# Altium footprint library PCB1.PcbLib: 42 footprints (part 1 of 3)
Each footprint in its own frame and in the unit in brackets; x right, y up, seen from the top. Pads: shape width x height; smd on the part's side, far side on the other; paste and mask are expansions set on the pad; w line width, h text height; cw(c..) or ccw(c..) is an arc to the next point about the centre after c.
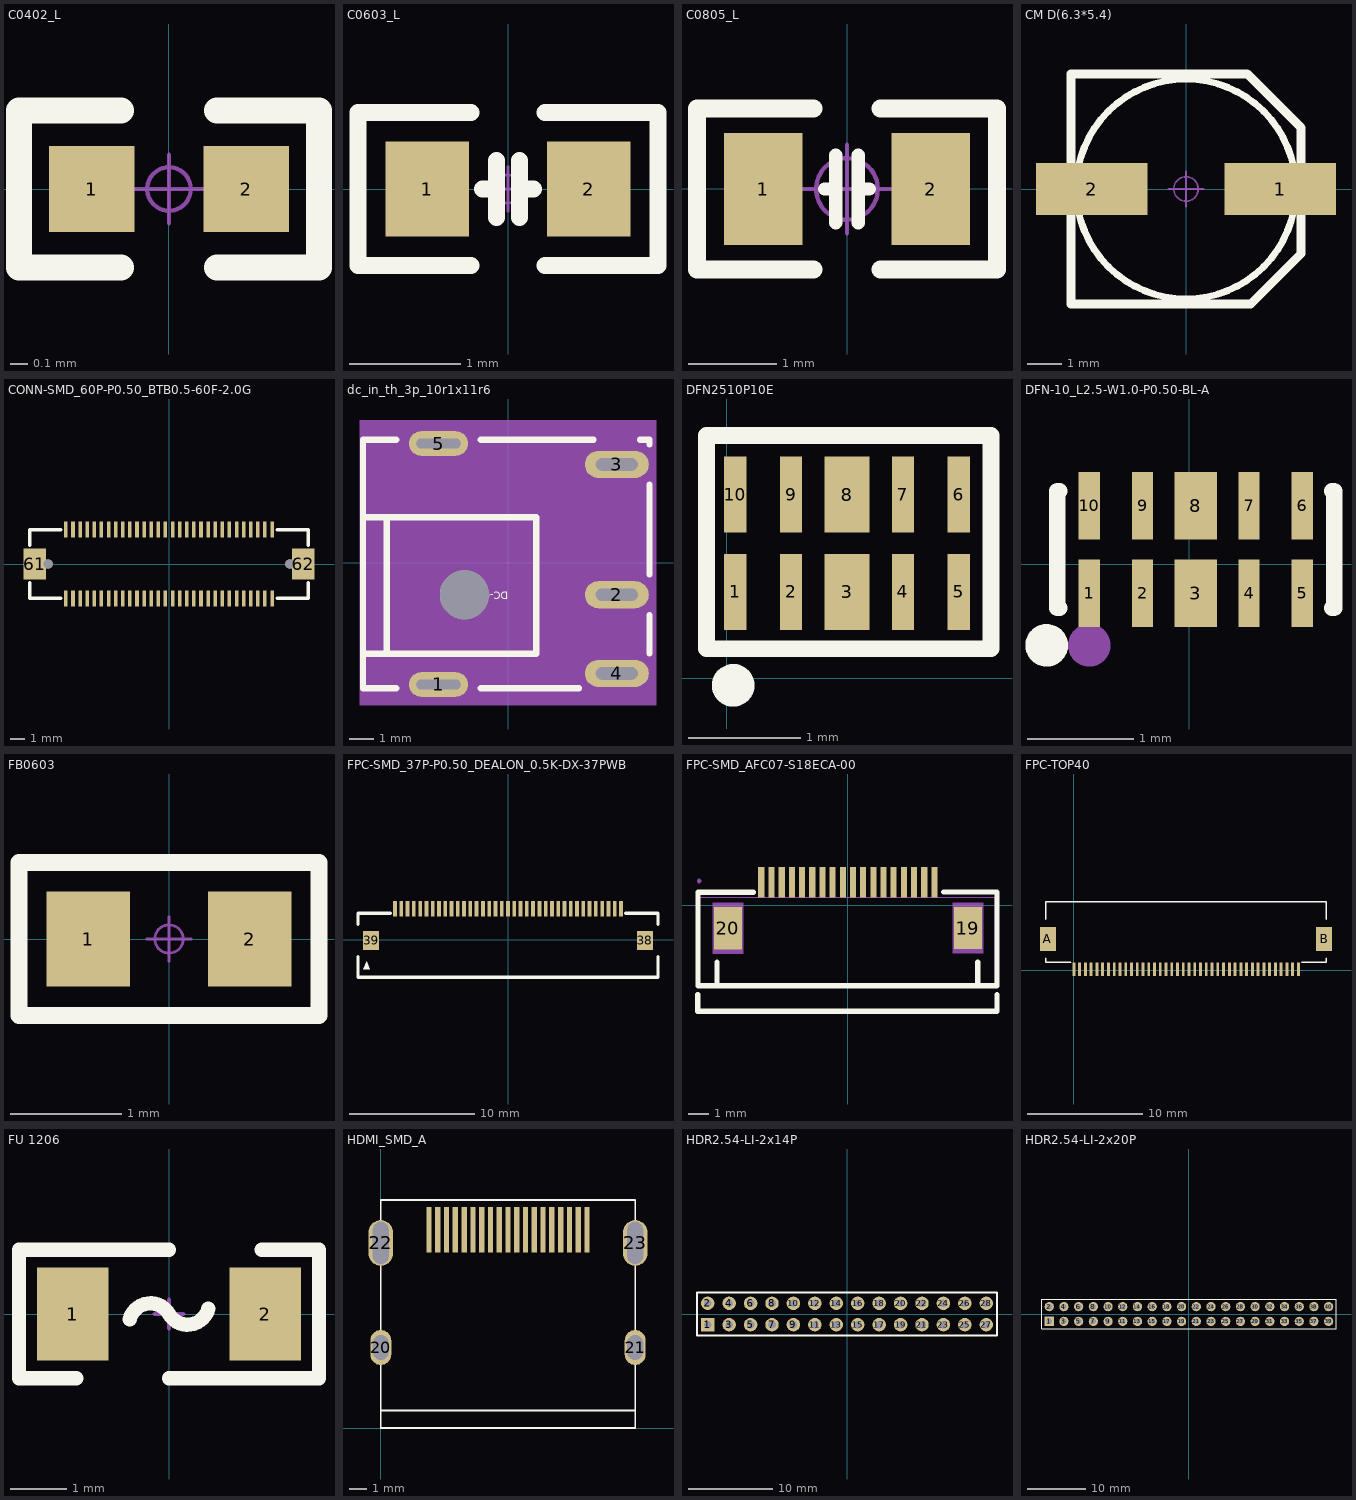
[diagram p0: the footprints below, top view; thin cyan lines are the x and y axes]

## C0402_L [mm]
pads (2):
  rect 0.5x0.5 smd: 1(-0.45,0) 2(0.45,0)
Top Overlay:
  lines w0.152: -0.279,-0.457 -0.875,-0.457 -0.875,0.457 -0.279,0.457 ; 0.279,-0.457 0.875,-0.457 0.875,0.457 0.279,0.457
Mechanical 15:
  circle w0.025: c0,0 r0.127
  lines w0.025: -0.2,0 0.2,0 ; 0,-0.2 0,0.2
3D body "C0402-B-2S.stp": height 0.5, standoff 0, extent -0.5,-0.25 0.5,0.25

## C0603_L [mm]
pads (2):
  rect 0.75x0.85 smd: 1(-0.725,0) 2(0.725,0)
Top Overlay:
  lines w0.152: -0.33,-0.686 -1.346,-0.686 -1.346,0.686 -0.33,0.686 ; -0.229,0 -0.102,0 ; -0.102,-0.254 -0.102,0.254 ; 0.102,-0.254 0.102,0.254 ; 0.102,0 0.229,0 ; 0.33,-0.686 1.346,-0.686 1.346,0.686 0.33,0.686
Mechanical 15:
  circle w0.025: c0,0 r0.127
  lines w0.025: -0.2,0 0.2,0 ; 0,-0.2 0,0.2
3D body "C0603H08-2S.stp": height 0.8, standoff 0, extent -0.8,-0.4 0.8,0.4

## C0805_L [mil]
height 19.68
pads (2):
  rect 35x50 smd: 1(-37.4,0) 2(37.4,0)
Top Overlay:
  lines w6: -10,0 -5,0 ; -5,-15 -5,15 ; 5,-15 5,15 ; 5,0 10,0
  lines w8: -15,-36 -66.93,-36 -66.93,36 -15,36 ; 15,-36 66.93,-36 66.93,36 15,36
Mechanical 15:
  circle w1.97: c0,0 r13.78
  circle w1.97: c0,0 r13.78
  lines w1.97: -19.68,0 19.68,0 -19.68,0 ; 0,-19.68 0,19.68 0,-19.68
3D body "C0805H13-2S.stp": height 51.18, standoff -0.04, extent -39.36,-25.58 39.38,25.6

## CM D(6.3*5.4) [mm]
pads (2):
  rect 3.2x1.5 smd: 1(2.7,0) 2(-2.7,0)
Top Overlay:
  circle w0.2: c0,0 r3.15
  lines w0.254: -3.3,-3.3 1.85,-3.3 3.3,-1.85 3.3,1.75 1.75,3.3 -3.3,3.3 -3.3,-3.3
Mechanical 15:
  circle w0.05: c0,0 r0.35
  lines w0.05: -0.5,0 0.5,0 ; 0,-0.5 0,0.5

## CONN-SMD_60P-P0.50_BTB0.5-60F-2.0G [mm]
pads (64):
  rect 0.25x1.15 smd paste+0 mask+0.051: 1(-7.25,2.425) 2(-7.25,-2.425) 3(-6.75,2.425) 4(-6.75,-2.425) 5(-6.25,2.425) 6(-6.25,-2.425) 7(-5.75,2.425) 8(-5.75,-2.425) 9(-5.25,2.425) 10(-5.25,-2.425) 11(-4.75,2.425) 12(-4.75,-2.425) 13(-4.25,2.425) 14(-4.25,-2.425) 15(-3.75,2.425) 16(-3.75,-2.425) 17(-3.25,2.425) 18(-3.25,-2.425) 19(-2.75,2.425) 20(-2.75,-2.425) 21(-2.25,2.425) 22(-2.25,-2.425) 23(-1.75,2.425) 24(-1.75,-2.425) 25(-1.25,2.425) 26(-1.25,-2.425) 27(-0.75,2.425) 28(-0.75,-2.425) 29(-0.25,2.425) 30(-0.25,-2.425) 31(0.25,2.425) 32(0.25,-2.425) 33(0.75,2.425) 34(0.75,-2.425) 35(1.25,2.425) 36(1.25,-2.425) 37(1.75,2.425) 38(1.75,-2.425) 39(2.25,2.425) 40(2.25,-2.425) 41(2.75,2.425) 42(2.75,-2.425) 43(3.25,2.425) 44(3.25,-2.425) 45(3.75,2.425) 46(3.75,-2.425) 47(4.25,2.425) 48(4.25,-2.425) 49(4.75,2.425) 50(4.75,-2.425) 51(5.25,2.425) 52(5.25,-2.425) 53(5.75,2.425) 54(5.75,-2.425) 55(6.25,2.425) 56(6.25,-2.425) 57(6.75,2.425) 58(6.75,-2.425) 59(7.25,2.425) 60(7.25,-2.425)
  rect 1.6x2.2 smd paste+0 mask+0.051: 61(-9.45,0) 62(9.45,0)
  round 0.65 hole 0.65 unplated paste+0: ""(-8.5,0) ""(8.5,0)
Top Overlay:
  lines w0.254: -9.8,-1.331 -9.8,-2.4 -9.5,-2.4 ; -9.8,1.331 -9.8,2.4 -7.606,2.4 ; -9.7,-2.4 -7.606,-2.4 ; 7.606,-2.4 9.8,-2.4 9.8,-1.331 ; 7.606,2.4 9.8,2.4 9.8,1.331
Mechanical 15:
  circle w0.25: c-8.5,0 r0.125
  circle w0.25: c8.5,0 r0.125

## dc_in_th_3p_10r1x11r6 [mil]
pads (6):
  oval 94.5x39.4 / inner round 60 / far side oval 94.5x39.4 hole 70.9 slot 15.7 at 90 deg: 1(-111.25,-194.9) 5(-111.25,190.9)
  oval 102.4x43.3 hole 66.9 slot 19.7 at 90 deg: 2(174.25,-51.2) 3(174.25,157.4)
  oval 102.4x43.3 / inner round 60 / far side oval 102.4x43.3 hole 66.9 slot 19.7 at 90 deg: 4(174.25,-177.2)
  round 78.7 hole 78.7 unplated: ""(-69.85,-51.2)
Top Overlay:
  lines w10: -232.25,-145.7 45.25,-145.7 45.25,72.8 -222.45,72.8 -232.25,72.8 ; -193.95,-145.7 -193.95,72.8 ; -178.95,-200.8 -232.25,-200.8 -232.25,196.8 -178.95,196.8 ; -43.45,-200.8 113.65,-200.8 ; -43.45,196.8 136.95,196.8 ; 211.45,196.8 226.35,196.8 226.35,189.7 ; 226.35,-145 226.35,-83.5 ; 226.35,-19 226.35,125.2
  text "DC-044A-20A" at 0.01,-46.06 h11.81
Top 3D Body:
  region: -237.25,-228.4 237.25,-228.4 237.25,228.4 -237.25,228.4
Mechanical 15:
  text "4" at 174.25,-187.2 h25
  text "2" at 174.25,-61.2 h25
  text "3" at 174.25,147.4 h25
  text "5" at -111.25,180.9 h25
  text "1" at -111.25,-204.9 h25
Mechanical 23:
  dashed: -232.25,-141.8 41.35,-141.8 41.35,68.9 -232.25,68.9 -232.25,78.7 51.15,78.7 51.15,-151.6 -232.25,-151.6
3D body: height 150, standoff 0, extent -237.25,-228.4 237.25,228.4

## DFN2510P10E [mm]
pads (10):
  rect 0.2x0.68 smd: 1(0.075,0.771) 2(0.575,0.771) 4(1.575,0.771) 5(2.075,0.771) 6(2.075,1.641) 7(1.575,1.641) 9(0.575,1.641) 10(0.075,1.641)
  rect 0.4x0.68 smd: 3(1.075,0.771) 8(1.075,1.641)
Top Overlay:
  circle w0.254: c0.059,-0.064 r0.064
  lines w0.15: -0.179,0.263 2.361,0.263 2.361,2.168 -0.179,2.168 -0.179,0.263

## DFN-10_L2.5-W1.0-P0.50-BL-A [mm]
pads (10):
  rect 0.2x0.633 smd paste+0 mask+0.051: 1(-0.938,-0.276) 2(-0.438,-0.276) 4(0.562,-0.276) 5(1.062,-0.276) 6(1.062,0.548) 7(0.562,0.548) 9(-0.438,0.548) 10(-0.938,0.548)
  rect 0.4x0.633 smd paste+0 mask+0.051: 3(0.062,-0.276) 8(0.062,0.548)
Top Overlay:
  circle w0.2: c-1.338,-0.764 r0.1
  lines w0.152: -1.218,-0.414 -1.238,-0.414 -1.238,0.686 -1.218,0.686 ; 1.342,-0.414 1.362,-0.414 1.362,0.686 1.342,0.686
Mechanical 15:
  circle w0.2: c-0.938,-0.764 r0.1

## FB0603 [mm]
pads (2):
  rect 0.75x0.85 smd: 1(-0.725,0) 2(0.725,0)
Top Overlay:
  lines w0.152: -1.346,-0.686 1.346,-0.686 1.346,0.686 -1.346,0.686 -1.346,-0.686
Mechanical 15:
  circle w0.025: c0,0 r0.127
  lines w0.025: -0.2,0 0.2,0 ; 0,-0.2 0,0.2
3D body "L0603H08-2S.stp": height 0.8, standoff 0, extent -0.8,-0.4 0.8,0.4

## FPC-SMD_37P-P0.50_DEALON_0.5K-DX-37PWB [mm]
pads (39):
  rect 0.3x1.25 smd paste+0 mask+0.05: 1(-9,2.482) 2(-8.5,2.482) 3(-8,2.482) 4(-7.5,2.482) 5(-7,2.482) 6(-6.5,2.482) 7(-6,2.482) 8(-5.5,2.482) 9(-5,2.482) 10(-4.5,2.482) 11(-4,2.482) 12(-3.5,2.482) 13(-3,2.482) 14(-2.5,2.482) 15(-2,2.482) 16(-1.5,2.482) 17(-1,2.482) 18(-0.5,2.482) 19(0,2.482) 20(0.5,2.482) 21(1,2.482) 22(1.5,2.482) 23(2,2.482) 24(2.5,2.482) 25(3,2.482) 26(3.5,2.482) 27(4,2.482) 28(4.5,2.482) 29(5,2.482) 30(5.5,2.482) 31(6,2.482) 32(6.5,2.482) 33(7,2.482) 34(7.5,2.482) 35(8,2.482) 36(8.5,2.482) 37(9,2.482)
  rect 1.27x1.524 smd paste+0 mask+0.05: 38(10.9,-0.044) 39(-10.9,-0.043)
Top Overlay:
  region: -11.268,-1.709 -11.522,-2.344 -11.014,-2.344
  lines w0.254: -11.95,-1.319 -11.95,-2.98 11.95,-2.98 11.95,-1.319 ; -11.95,1.232 -11.95,2.108 -9.381,2.108 ; 9.381,2.108 11.95,2.108 11.95,1.232

## FPC-SMD_AFC07-S18ECA-00 [mm]
pads (20):
  rect 0.3x1.5 smd: 1(-4.26,1.133) 2(-3.75,1.133) 3(-3.25,1.133) 4(-2.75,1.133) 5(-2.25,1.133) 6(-1.75,1.133) 7(-1.25,1.133) 8(-0.75,1.133) 9(-0.25,1.133) 10(0.25,1.133) 11(0.75,1.133) 12(1.25,1.133) 13(1.75,1.133) 14(2.25,1.133) 15(2.75,1.133) 16(3.25,1.133) 17(3.75,1.133) 18(4.25,1.133)
  rect 1.372x2.083 smd: 19(5.901,-1.126) 20(-5.901,-1.133)
Top Overlay:
  lines w0.254: -7.38,-4.387 -7.38,-5.216 7.327,-5.216 7.327,-4.387 ; -7.372,-3.966 7.327,-3.966 7.327,0.641 4.699,0.641 ; -7.372,0.626 -7.36,-3.947 ; -7.372,0.627 -4.638,0.627 ; -6.44,-3.966 -6.44,-2.807 ; 6.382,-3.966 6.382,-2.807
Mechanical 15:
  region: -6.651,0.117 -5.151,0.117 -5.151,-2.383 -6.651,-2.383
  region: 6.651,-2.376 5.151,-2.376 5.151,0.124 6.651,0.124
  region: 4.35,0.382 4.15,0.382 4.15,1.232 4.35,1.232
  region: 3.85,0.382 3.65,0.382 3.65,1.232 3.85,1.232
  region: 3.35,0.382 3.15,0.382 3.15,1.232 3.35,1.232
  region: 2.85,0.382 2.65,0.382 2.65,1.232 2.85,1.232
  region: 2.35,0.382 2.15,0.382 2.15,1.232 2.35,1.232
  region: 1.85,0.382 1.65,0.382 1.65,1.232 1.85,1.232
  region: 1.35,0.382 1.15,0.382 1.15,1.232 1.35,1.232
  region: 0.85,0.382 0.65,0.382 0.65,1.232 0.85,1.232
  region: 0.35,0.382 0.15,0.382 0.15,1.232 0.35,1.232
  region: -0.15,0.382 -0.35,0.382 -0.35,1.232 -0.15,1.232
  region: -0.65,0.382 -0.85,0.382 -0.85,1.232 -0.65,1.232
  region: -1.15,0.382 -1.35,0.382 -1.35,1.232 -1.15,1.232
  region: -1.65,0.382 -1.85,0.382 -1.85,1.232 -1.65,1.232
  region: -2.15,0.382 -2.35,0.382 -2.35,1.232 -2.15,1.232
  region: -2.65,0.382 -2.85,0.382 -2.85,1.232 -2.65,1.232
  region: -3.15,0.382 -3.35,0.382 -3.35,1.232 -3.15,1.232
  region: -3.65,0.382 -3.85,0.382 -3.85,1.232 -3.65,1.232
  region: -4.16,0.382 -4.36,0.382 -4.36,1.232 -4.16,1.232
  region: -7.216,1.182 -7.216,1.224 -7.275,1.283 -7.358,1.283 -7.416,1.224 -7.416,1.182 -7.416,1.141 -7.358,1.082 -7.275,1.082 -7.216,1.141 -7.216,1.182
  lines w0.051: -7.366,-3.963 7.234,-3.963 7.234,0.387 -7.366,0.387 -7.366,-3.963

## FPC-TOP40 [mm]
pads (42):
  rect 0.25x1.2 smd: 1(0,0.102) 2(0.5,0.102) 3(1,0.102) 4(1.5,0.102) 5(2,0.102) 6(2.5,0.102) 7(3,0.102) 8(3.5,0.102) 9(4,0.102) 10(4.5,0.102) 11(5,0.102) 12(5.5,0.102) 13(6,0.102) 14(6.5,0.102) 15(7,0.102) 16(7.5,0.102) 17(8,0.102) 18(8.5,0.102) 19(9,0.102) 20(9.5,0.102) 21(10,0.102) 22(10.5,0.102) 23(11,0.102) 24(11.5,0.102) 25(12,0.102) 26(12.5,0.102) 27(13,0.102) 28(13.5,0.102) 29(14,0.102) 30(14.5,0.102) 31(15,0.102) 32(15.5,0.102) 33(16,0.102) 34(16.5,0.102) 35(17,0.102) 36(17.5,0.102) 37(18,0.102) 38(18.5,0.102) 39(19,0.102) 40(19.5,0.102)
  rect 1.372x2.083 smd: A(-2.25,2.754) B(21.725,2.754)
Top Overlay:
  lines w0.127: -2.45,0.731 -2.438,0.719
  lines w0.152: -2.45,0.719 -0.305,0.719 ; -2.45,0.731 -2.45,1.067 ; -2.45,4.445 -2.45,5.969 21.925,5.969 21.925,4.47 ; 19.794,0.711 21.925,0.711 21.925,1.067

## FU 1206 [mil]
pads (2):
  rect 50x65 smd: 1(-67.5,0) 2(67.5,0)
Top Overlay:
  lines w10: -90,45 0,45 ; -65,-45 -105,-45 -105,45 -65,45 ; -27.48,-3.62 cw(c-12.99,-7.5) 0,0 ccw(c12.99,7.5) 27.48,3.62 ; 0,-45 90,-45 ; 65,-45 105,-45 105,45 65,45
Mechanical 15:
  lines w3: -10,0 10,0 ; 0,-10 0,10
3D body "FU 01206.STEP": height 34.25, standoff 0, extent -62.99,-31.89 62.99,31.89

## HDMI_SMD_A [mm]
pads (23):
  rect 0.3x2.6 smd: 1(11.75,11.31) 2(11.25,11.31) 3(10.75,11.31) 4(10.25,11.31) 5(9.75,11.31) 6(9.25,11.31) 7(8.75,11.31) 8(8.25,11.31) 9(7.75,11.31) 10(7.25,11.31) 11(6.75,11.31) 12(6.25,11.31) 13(5.75,11.31) 14(5.25,11.31) 15(4.75,11.31) 16(4.25,11.31) 17(3.75,11.31) 18(3.25,11.31) 19(2.75,11.31)
  oval 1.2x2 hole 0.9 slot 1.4 at 90 deg: 20(0,4.59) 21(14.5,4.59)
  oval 1.4x2.6 hole 0.9 slot 2.4 at 90 deg: 22(0,10.55) 23(14.5,10.55)
Top Overlay:
  lines w0.1: 0,1 14.5,1 ; 0,0 0,13 14.5,13 14.5,0 0,0

## HDR2.54-LI-2x14P [mm]
pads (28):
  rect 1.6x1.6 hole 0.9: 1(-16.51,-1.27)
  round 1.6 hole 0.9: 2(-16.51,1.27) 3(-13.97,-1.27) 4(-13.97,1.27) 5(-11.43,-1.27) 6(-11.43,1.27) 7(-8.89,-1.27) 8(-8.89,1.27) 9(-6.35,-1.27) 10(-6.35,1.27) 11(-3.81,-1.27) 12(-3.81,1.27) 13(-1.27,-1.27) 14(-1.27,1.27) 15(1.27,-1.27) 16(1.27,1.27) 17(3.81,-1.27) 18(3.81,1.27) 19(6.35,-1.27) 20(6.35,1.27) 21(8.89,-1.27) 22(8.89,1.27) 23(11.43,-1.27) 24(11.43,1.27) 25(13.97,-1.27) 26(13.97,1.27) 27(16.51,-1.27) 28(16.51,1.27)
Top Overlay:
  lines w0.2: -17.78,-2.54 -17.78,2.54 17.78,2.54 17.78,-2.54 -17.78,-2.54
3D body "HDR2.54-1x2P.STEP": height 8.5, standoff -3, extent -15.24,-2.54 -12.7,2.54
3D body "HDR2.54-1x2P.STEP": height 8.5, standoff -3, extent -17.78,-2.54 -15.24,2.54
3D body "HDR2.54-1x2P.STEP": height 8.5, standoff -3, extent -10.16,-2.54 -7.62,2.54
3D body "HDR2.54-1x2P.STEP": height 8.5, standoff -3, extent -12.7,-2.54 -10.16,2.54
3D body "HDR2.54-1x2P.STEP": height 8.5, standoff -3, extent -5.08,-2.54 -2.54,2.54
3D body "HDR2.54-1x2P.STEP": height 8.5, standoff -3, extent -7.62,-2.54 -5.08,2.54
3D body "HDR2.54-1x2P.STEP": height 8.5, standoff -3, extent 0,-2.54 2.54,2.54
3D body "HDR2.54-1x2P.STEP": height 8.5, standoff -3, extent -2.54,-2.54 0,2.54
3D body "HDR2.54-1x2P.STEP": height 8.5, standoff -3, extent 5.08,-2.54 7.62,2.54
3D body "HDR2.54-1x2P.STEP": height 8.5, standoff -3, extent 2.54,-2.54 5.08,2.54
3D body "HDR2.54-1x2P.STEP": height 8.5, standoff -3, extent 10.16,-2.54 12.7,2.54
3D body "HDR2.54-1x2P.STEP": height 8.5, standoff -3, extent 7.62,-2.54 10.16,2.54
3D body "HDR2.54-1x2P.STEP": height 8.5, standoff -3, extent 15.24,-2.54 17.78,2.54
3D body "HDR2.54-1x2P.STEP": height 8.5, standoff -3, extent 12.7,-2.54 15.24,2.54

## HDR2.54-LI-2x20P [mm]
pads (40):
  rect 1.6x1.6 hole 0.9: 1(-24.13,-1.27)
  round 1.6 hole 0.9: 2(-24.13,1.27) 3(-21.59,-1.27) 4(-21.59,1.27) 5(-19.05,-1.27) 6(-19.05,1.27) 7(-16.51,-1.27) 8(-16.51,1.27) 9(-13.97,-1.27) 10(-13.97,1.27) 11(-11.43,-1.27) 12(-11.43,1.27) 13(-8.89,-1.27) 14(-8.89,1.27) 15(-6.35,-1.27) 16(-6.35,1.27) 17(-3.81,-1.27) 18(-3.81,1.27) 19(-1.27,-1.27) 20(-1.27,1.27) 21(1.27,-1.27) 22(1.27,1.27) 23(3.81,-1.27) 24(3.81,1.27) 25(6.35,-1.27) 26(6.35,1.27) 27(8.89,-1.27) 28(8.89,1.27) 29(11.43,-1.27) 30(11.43,1.27) 31(13.97,-1.27) 32(13.97,1.27) 33(16.51,-1.27) 34(16.51,1.27) 35(19.05,-1.27) 36(19.05,1.27) 37(21.59,-1.27) 38(21.59,1.27) 39(24.13,-1.27) 40(24.13,1.27)
Top Overlay:
  lines w0.2: -25.4,-2.54 -25.4,2.54 25.4,2.54 25.4,-2.54 -25.4,-2.54
3D body "HDR2.54-1x2P.STEP": height 8.5, standoff -3, extent -22.86,-2.54 -20.32,2.54
3D body "HDR2.54-1x2P.STEP": height 8.5, standoff -3, extent -25.4,-2.54 -22.86,2.54
3D body "HDR2.54-1x2P.STEP": height 8.5, standoff -3, extent -17.78,-2.54 -15.24,2.54
3D body "HDR2.54-1x2P.STEP": height 8.5, standoff -3, extent -20.32,-2.54 -17.78,2.54
3D body "HDR2.54-1x2P.STEP": height 8.5, standoff -3, extent -12.7,-2.54 -10.16,2.54
3D body "HDR2.54-1x2P.STEP": height 8.5, standoff -3, extent -15.24,-2.54 -12.7,2.54
3D body "HDR2.54-1x2P.STEP": height 8.5, standoff -3, extent -7.62,-2.54 -5.08,2.54
3D body "HDR2.54-1x2P.STEP": height 8.5, standoff -3, extent -10.16,-2.54 -7.62,2.54
3D body "HDR2.54-1x2P.STEP": height 8.5, standoff -3, extent -2.54,-2.54 0,2.54
3D body "HDR2.54-1x2P.STEP": height 8.5, standoff -3, extent -5.08,-2.54 -2.54,2.54
3D body "HDR2.54-1x2P.STEP": height 8.5, standoff -3, extent 2.54,-2.54 5.08,2.54
3D body "HDR2.54-1x2P.STEP": height 8.5, standoff -3, extent 0,-2.54 2.54,2.54
3D body "HDR2.54-1x2P.STEP": height 8.5, standoff -3, extent 7.62,-2.54 10.16,2.54
3D body "HDR2.54-1x2P.STEP": height 8.5, standoff -3, extent 5.08,-2.54 7.62,2.54
3D body "HDR2.54-1x2P.STEP": height 8.5, standoff -3, extent 12.7,-2.54 15.24,2.54
3D body "HDR2.54-1x2P.STEP": height 8.5, standoff -3, extent 10.16,-2.54 12.7,2.54
3D body "HDR2.54-1x2P.STEP": height 8.5, standoff -3, extent 17.78,-2.54 20.32,2.54
3D body "HDR2.54-1x2P.STEP": height 8.5, standoff -3, extent 15.24,-2.54 17.78,2.54
3D body "HDR2.54-1x2P.STEP": height 8.5, standoff -3, extent 22.86,-2.54 25.4,2.54
3D body "HDR2.54-1x2P.STEP": height 8.5, standoff -3, extent 20.32,-2.54 22.86,2.54